# Altium footprint library SOIC127P1150X360-6N.PcbLib: 1 footprints
Each footprint in its own frame and in the unit in brackets; x right, y up, seen from the top. Pads: shape width x height; smd on the part's side, far side on the other; paste and mask are expansions set on the pad; w line width, h text height; cw(c..) or ccw(c..) is an arc to the next point about the centre after c.
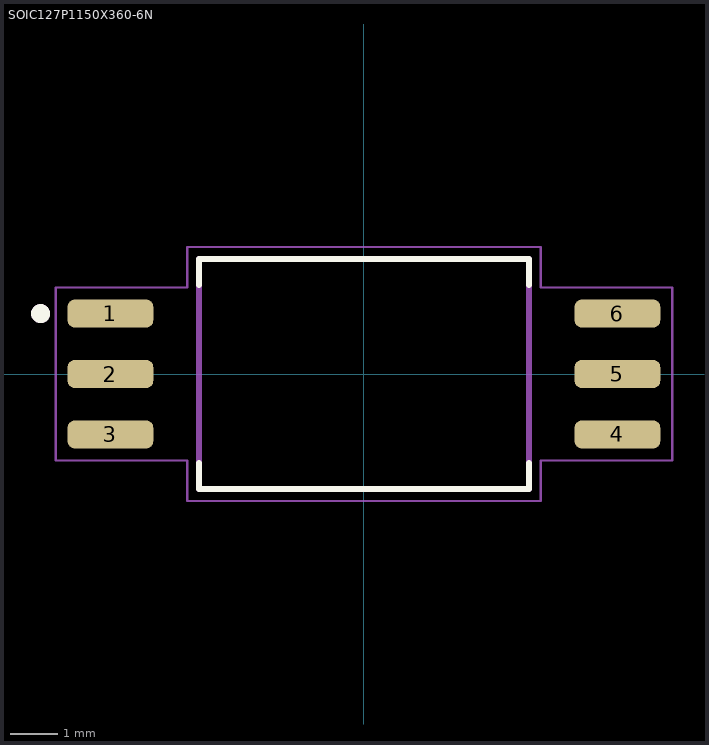
[diagram p0: the footprint, top view; thin cyan lines are the x and y axes]

## SOIC127P1150X360-6N [mm]
pads (6):
  rrect50% 1.8x0.59 smd: 1(-5.33,1.27) 2(-5.33,0) 3(-5.33,-1.27) 4(5.33,-1.27) 5(5.33,0) 6(5.33,1.27)
Top Overlay:
  circle w0.2: c-6.8,1.27 r0.1
  lines w0.127: -3.47,-1.873 -3.47,-2.42 3.47,-2.42 3.47,-1.873 ; -3.47,1.873 -3.47,2.42 3.47,2.42 3.47,1.873
Mechanical 13:
  circle w0.2: c-6.8,1.27 r0.1
  lines w0.127: -3.47,-2.42 -3.47,2.42 3.47,2.42 3.47,-2.42 -3.47,-2.42
Mechanical 15:
  lines w0.05: -6.48,-1.82 -6.48,1.82 -3.72,1.82 -3.72,2.67 3.72,2.67 3.72,1.82 6.48,1.82 6.48,-1.82 3.72,-1.82 3.72,-2.67 -3.72,-2.67 -3.72,-1.82 -6.48,-1.82